# Altium footprint library PcbLib1.PcbLib: 23 footprints (part 2 of 2)
Each footprint in its own frame and in the unit in brackets; x right, y up, seen from the top. Pads: shape width x height; smd on the part's side, far side on the other; paste and mask are expansions set on the pad; w line width, h text height; cw(c..) or ccw(c..) is an arc to the next point about the centre after c.
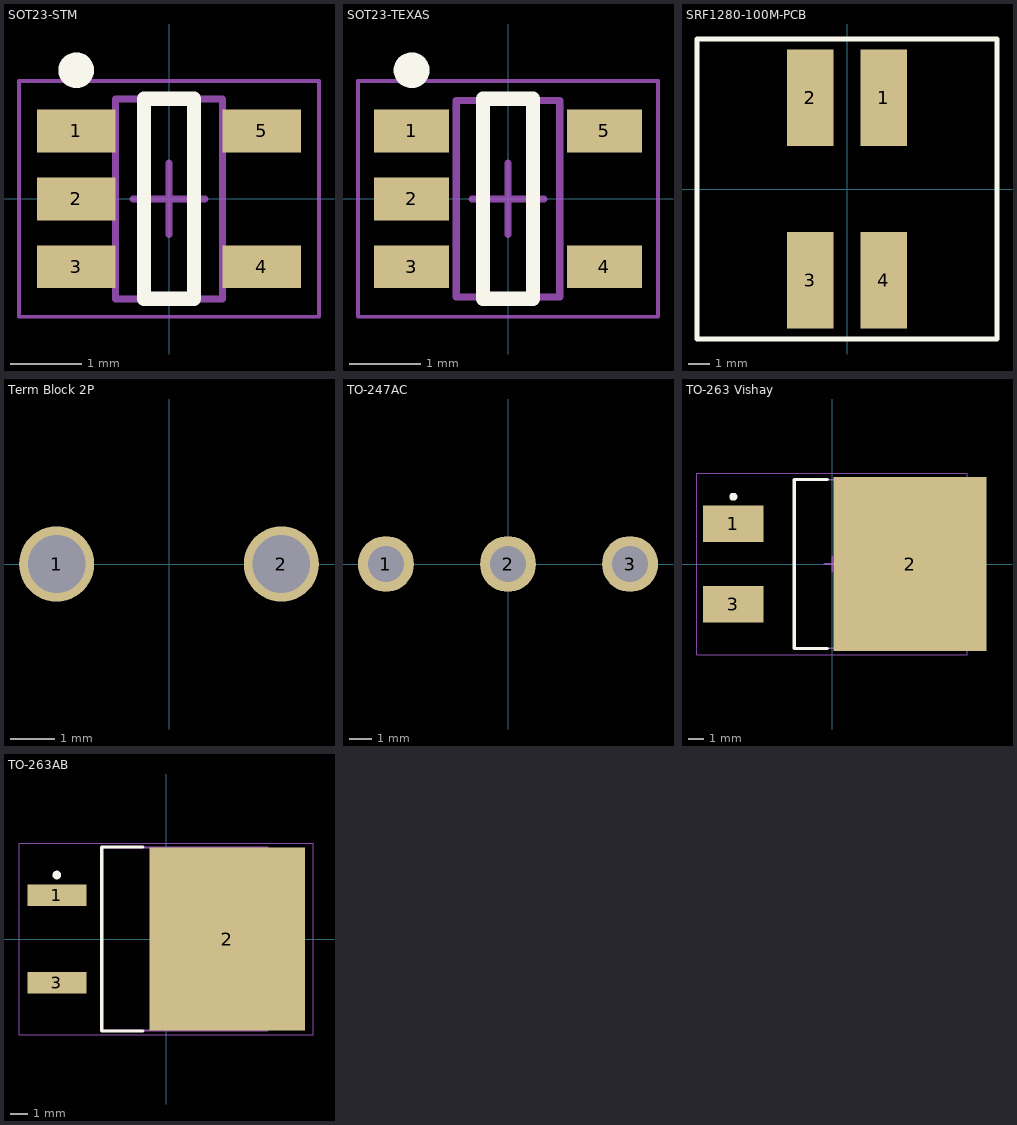
[diagram p1: the footprints below, top view; thin cyan lines are the x and y axes]

## SOT23-STM [mm] "SOT23, 5-Leads, Body 2,90x2,80mm, Pitch 0,95mm, IPC Medium Density"
height 1.45
pads (5):
  rect 1.1x0.6 smd: 1(-1.3,0.95) 2(-1.3,0) 3(-1.3,-0.95) 4(1.3,-0.95) 5(1.3,0.95)
Top Overlay:
  circle w0.25: c-1.3,1.8 r0.125
  lines w0.2: -0.35,-1.4 -0.35,1.4 0.35,1.4 0.35,-1.4 -0.35,-1.4
Mechanical 13:
  lines w0.1: -0.75,-1.4 0.75,-1.4 0.75,1.4 -0.75,1.4 -0.75,-1.4
Mechanical 15:
  lines w0.05: -2.1,-1.65 2.1,-1.65 2.1,1.65 -2.1,1.65 -2.1,-1.65
  lines w0.1: -0.5,0 0.5,0 ; 0,-0.5 0,0.5
3D body: height 1.45, standoff 0, extent -0.75,-1.4 0.75,1.4

## SOT23-TEXAS [mm] "SOT23, 5-Leads, Body 2,90x2,80mm, Pitch 0,95mm, IPC Medium Density"
height 1.45
pads (5):
  rect 1.05x0.6 smd: 1(-1.35,0.95) 2(-1.35,0) 3(-1.35,-0.95) 4(1.35,-0.95) 5(1.35,0.95)
Top Overlay:
  circle w0.25: c-1.35,1.8 r0.125
  lines w0.2: -0.35,-1.4 0.35,-1.4 0.35,1.4 -0.35,1.4 -0.35,-1.4
Mechanical 13:
  lines w0.1: -0.725,-1.375 -0.725,1.375 0.725,1.375 0.725,-1.375 -0.725,-1.375
Mechanical 15:
  lines w0.05: -2.1,-1.65 -2.1,1.65 2.1,1.65 2.1,-1.65 -2.1,-1.65
  lines w0.1: -0.5,0 0.5,0 ; 0,-0.5 0,0.5
3D body: height 1.45, standoff 0, extent -0.725,-1.375 0.725,1.375

## SRF1280-100M-PCB [mm]
pads (4):
  rect 2.15x4.5 smd: 1(1.715,4.25) 2(-1.715,4.25) 3(-1.715,-4.25) 4(1.715,-4.25)
Top Overlay:
  lines w0.254: -6.985,-6.985 6.985,-6.985 6.985,6.985 -6.985,6.985 -6.985,-6.985
3D body "srf1280.stp": height 7.8, standoff -0.2, extent -6.25,-6.123 6.25,6.377

## Term Block 2P [mm]
pads (2):
  round 1.7 hole 1.3: 1(-2.54,0) 2(2.54,0)
3D body "DG301-5.0-02.stp": height 10, standoff -4.4, extent -5.64,-3.1 4.96,4.5

## TO-247AC [mm]
pads (3):
  round 2.5 hole 1.6: 1(-5.45,0) 2(0,0) 3(5.45,0)
3D body "TO-247H.SLDPRT": height 8, standoff -3.9, extent -7.747,-24.892 7.753,0.508

## TO-263 Vishay [mm] "D2-PAK, 3-Pads, Body 7,93x8,69mm (max), IPC Medium Density"
height 4.83
pads (3):
  rect 3.81x2.32 smd: 1(-6.25,2.54) 3(-6.25,-2.54)
  rect 9.65x11 smd: 2(4.92,0)
Top Overlay:
  circle w0.25: c-6.25,4.25 r0.125
  lines w0.2: -0.305,-5.35 -2.4,-5.35 -2.4,5.35 -0.305,5.35
Mechanical 13:
  lines w0.1: -2.4,-5.325 -2.4,5.325 7.25,5.325 7.25,-5.325 -2.4,-5.325
Mechanical 15:
  lines w0.05: -8.55,-5.75 -8.55,5.75 8.55,5.75 8.55,-5.75 -8.55,-5.75
  lines w0.1: -0.5,0 0.5,0 ; 0,-0.5 0,0.5
3D body "TO263-2-1.stp": height 4.22, standoff 0, extent -6.497,-4.911 8.089,4.911

## TO-263AB [mil] "D2-PAK, 3-Pads, Body 7,93x8,69mm (max), IPC Medium Density"
height 190.16
pads (3):
  rect 135x49.49 smd: 1(-250,100) 3(-250,-100)
  rect 355x420 smd: 2(140.04,0)
Top Overlay:
  circle w9.84: c-250,146.4 r4.92
  lines w7.87: -53.21,-210.63 -147.64,-210.63 -147.64,210.63 -53.21,210.63
Mechanical 13:
  lines w3.94: -147.64,-209.65 232.28,-209.65 232.28,209.65 -147.64,209.65 -147.64,-209.65
Mechanical 15:
  lines w1.97: -336.61,-219.49 336.61,-219.49 336.61,219.49 -336.61,219.49 -336.61,-219.49
  lines w3.94: -19.69,0 19.68,0 ; 0,-19.68 0,19.68
3D body "TO263-2-1.stp": height 165.95, standoff -0.19, extent -305.77,-193.34 268.47,193.33